# Altium schematic symbol library UCL1E681MNL1GS.SchLib: 1 symbol
Pins are listed as number, name and electrical type; pins without a type are passive.

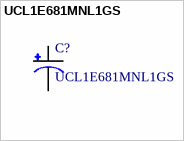
[diagram p0: symbol UCL1E681MNL1GS]

## UCL1E681MNL1GS
designator C?
Cap Aluminum Lytic 680uF 25V 20% _10 X 13.5mm_ SMD 1190mA 2000h 105C Automotive T/R; MF: Nichicon; SnapEDA_Link: https://www.snapeda.com/parts/UCL1E681MNL1GS/Nichicon/view-part/?ref=snap; Availability: Unavailable; MP: UCL1E681MNL1GS; Package: Radial Nichicon; Price: None; Value: *
footprint *CAPAE1030X1350N_UCL1E681MNL1GS(Primary)
pins: A POS, C NEG